# EAGLE library part TPS6107 (library IC_Power-Management)
Synchronous Boost Converter With 600-mA Switch Datasheet <https://www.ti.com/lit/ds/symlink/tps61070.pdf?ts=1593507986589&ref_url=https%253A%252F%252Fwww.ti.com%252Fstore%252Fti%252Fen%252Fp%252Fproduct%252F%253Fp%253DTPS61070DDCR>
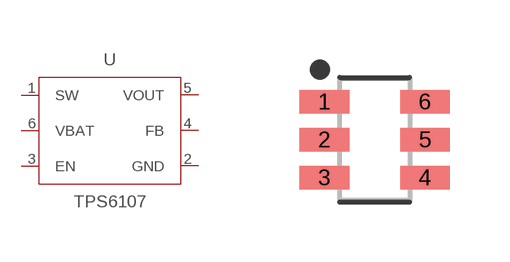
[diagram p15: symbol with the pads of SOT95P280X110-6N; footprint SOT95P280X110-6N]

Designator prefix -

## TPS61070DDCR_SOT23 (CATEGORY: IC_Power-Management; DESCRIPTION: IC REG BOOST ADJ 500MA TSOT23-6; INPUT_VOLTAGE: 0.9V to 5.5V; MANUFACTURER: TI; MPN: TPS61070DDCR; OPERATING_TEMP: -40°C ~ 85°C; OUTPUT_VOLTAGE: 1.8V to 5.5V; PART_STATUS: Active; ROHS_COMPLIANT: Yes; SUB-CATEGORY: Voltage Regulator; TOPOLOGY: Boost; TYPE: DC-DC Switching; VALUE: TPS61070), TPS61070DDCRG4_SOT23 (CATEGORY: IC_Power-Management; DESCRIPTION: IC REG BOOST ADJ 500MA TSOT23-6; INPUT_VOLTAGE: 0.9V to 5.5V; MANUFACTURER: TI; MPN: TPS61070DDCRG4; OPERATING_TEMP: -40°C ~ 85°C; OUTPUT_VOLTAGE: 1.8V to 5.5V; PART_STATUS: Active; ROHS_COMPLIANT: Yes; SUB-CATEGORY: Voltage Regulator; TOPOLOGY: Boost; TYPE: DC-DC Switching; VALUE: TPS61070), TPS61071DDCR_SOT23 (CATEGORY: IC_Power-Management; DESCRIPTION: IC REG BOOST ADJ 500MA TSOT23-6; INPUT_VOLTAGE: 0.9V to 5.5V; MANUFACTURER: TI; MPN: TPS61071DDCR; OPERATING_TEMP: -40°C ~ 85°C; OUTPUT_VOLTAGE: 1.8V to 5.5V; PART_STATUS: Active; ROHS_COMPLIANT: Yes; SUB-CATEGORY: Voltage Regulator; TOPOLOGY: Boost; TYPE: DC-DC Switching; VALUE: TPS61071), TPS61071DDCRG4_SOT23 (CATEGORY: IC_Power-Management; DESCRIPTION: IC REG BOOST ADJ 500MA TSOT23-6; INPUT_VOLTAGE: 0.9V to 5.5V; MANUFACTURER: TI; MPN: TPS61071DDCRG4; OPERATING_TEMP: -40°C ~ 85°C; OUTPUT_VOLTAGE: 1.8V to 5.5V; PART_STATUS: Active; ROHS_COMPLIANT: Yes; SUB-CATEGORY: Voltage Regulator; TOPOLOGY: Boost; TYPE: DC-DC Switching; VALUE: TPS61071), TPS61072DDCR_SOT23 (CATEGORY: IC_Power-Management; DESCRIPTION: IC REG BOOST ADJ 500MA TSOT23-6; INPUT_VOLTAGE: 0.9V to 5.5V; MANUFACTURER: TI; MPN: TPS61072DDCR; OPERATING_TEMP: -40°C ~ 85°C; OUTPUT_VOLTAGE: 1.8V to 5.5V; PART_STATUS: Active; ROHS_COMPLIANT: Yes; SUB-CATEGORY: Voltage Regulator; TOPOLOGY: Boost; TYPE: DC-DC Switching; VALUE: TPS61072), TPS61073DDCR_SOT23 (CATEGORY: IC_Power-Management; DESCRIPTION: IC REG BOOST ADJ 500MA TSOT23-6; INPUT_VOLTAGE: 0.9V to 5.5V; MANUFACTURER: TI; MPN: TPS61073DDCR; OPERATING_TEMP: -40°C ~ 85°C; OUTPUT_VOLTAGE: 1.8V to 5.5V; PART_STATUS: Active; ROHS_COMPLIANT: Yes; SUB-CATEGORY: Voltage Regulator; TOPOLOGY: Boost; TYPE: DC-DC Switching; VALUE: TPS61073)  [SOT95P280X110-6N]
1  SW  in
2  GND  pwr
3  EN  in
4  FB  in
5  VOUT  out
6  VBAT  in

## Footprint SOT95P280X110-6N (pad centres in mm)
6-SOT23, 0.95 mm pitch, 2.80 mm span, 2.90 X 1.60 X 1.10 mm body 6-pin SOT23 package with 0.95 mm pitch, 2.80 mm span with body size 2.90 X 1.60 X 1.10 mm
smd 1.25 x 0.589: 1 -1.256,0.95; 2 -1.256,0; 3 -1.256,-0.95; 4 1.256,-0.95; 5 1.256,0; 6 1.256,0.95